# Altium footprint library CartSimple.PCBLIB: 166 footprints (part 11 of 11)
Each footprint in its own frame and in the unit in brackets; x right, y up, seen from the top. Pads: shape width x height; smd on the part's side, far side on the other; paste and mask are expansions set on the pad; w line width, h text height; cw(c..) or ccw(c..) is an arc to the next point about the centre after c.
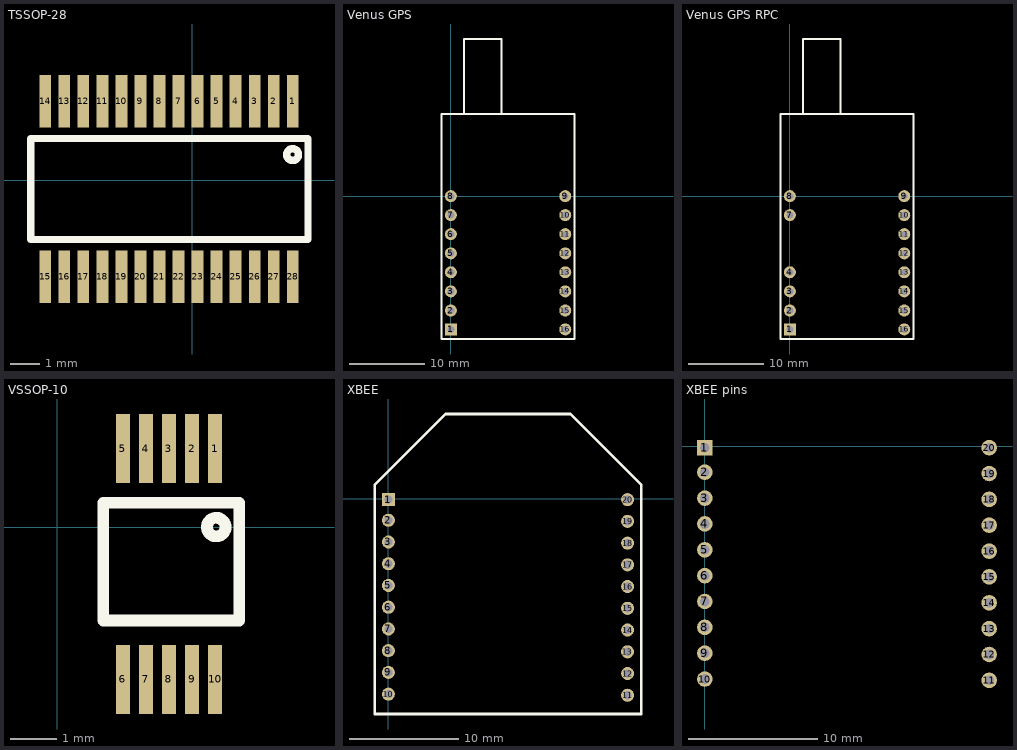
[diagram p10: the footprints below, top view; thin cyan lines are the x and y axes]

## TSSOP-28 [mm]
pads (28):
  rect 0.4x1.8 smd: 1(3.425,2.7) 2(2.775,2.7) 3(2.125,2.7) 4(1.475,2.7) 5(0.825,2.7) 6(0.175,2.7) 7(-0.475,2.7) 8(-1.125,2.7) 9(-1.775,2.7) 10(-2.425,2.7) 11(-3.075,2.7) 12(-3.725,2.7) 13(-4.375,2.7) 14(-5.025,2.7) 15(-5.025,-3.3) 16(-4.375,-3.3) 17(-3.725,-3.3) 18(-3.075,-3.3) 19(-2.425,-3.3) 20(-1.775,-3.3) 21(-1.125,-3.3) 22(-0.475,-3.3) 23(0.175,-3.3) 24(0.825,-3.3) 25(1.475,-3.3) 26(2.125,-3.3) 27(2.775,-3.3) 28(3.425,-3.3)
Top Overlay:
  circle w0.254: c3.423,0.875 r0.202
  lines w0.254: -5.525,-2.025 -5.525,1.425 3.95,1.425 3.95,-2.025 -5.525,-2.025

## Venus GPS [mm]
pads (16):
  rect 1.6x1.6 hole 0.9: 1(0,-17.775)
  round 1.6 hole 0.9: 2(0,-15.25) 3(0,-12.7) 4(0,-10.15) 5(0,-7.625) 6(0,-5.075) 7(0,-2.525) 8(0,0) 9(15.25,0) 10(15.25,-2.525) 11(15.25,-5.075) 12(15.25,-7.625) 13(15.25,-10.15) 14(15.25,-12.7) 15(15.25,-15.25) 16(15.25,-17.775)
Top Overlay:
  lines w0.254: 1.725,10.95 1.725,20.95 6.725,20.95 6.725,10.95 ; -1.275,-19.05 16.5,-19.05 16.5,10.95 -1.275,10.95 -1.275,-19.05

## Venus GPS RPC [mm]
pads (14):
  rect 1.6x1.6 hole 0.9: 1(0,-17.775)
  round 1.6 hole 0.9: 2(0,-15.25) 3(0,-12.7) 4(0,-10.15) 7(0,-2.525) 8(0,0) 9(15.25,0) 10(15.25,-2.525) 11(15.25,-5.075) 12(15.25,-7.625) 13(15.25,-10.15) 14(15.25,-12.7) 15(15.25,-15.25) 16(15.25,-17.775)
Top Overlay:
  lines w0.254: 1.725,10.95 1.725,20.95 6.725,20.95 6.725,10.95 ; -1.275,-19.05 -1.275,10.95 16.5,10.95 16.5,-19.05 -1.275,-19.05

## VSSOP-10 [mm]
pads (10):
  rect 0.3x1.5 smd: 1(3.425,1.7) 2(2.925,1.7) 3(2.425,1.7) 4(1.925,1.7) 5(1.425,1.7) 6(1.425,-3.3) 7(1.925,-3.3) 8(2.425,-3.3) 9(2.925,-3.3) 10(3.425,-3.3)
Top Overlay:
  circle w0.254: c3.448,0 r0.202
  lines w0.254: 1,-2.025 1,0.525 3.95,0.525 3.95,-2.025 1,-2.025

## XBEE [mm]
pads (20):
  rect 1.2x1.2 hole 0.75: 1(0,-0.1)
  round 1.2 hole 0.75: 2(0,-2) 3(0,-4) 4(0,-6) 5(0,-8) 6(0,-10) 7(0,-12) 8(-0.008,-14.001) 9(0,-16.001) 10(0,-18) 11(22,-18.1) 12(22,-16.101) 13(21.992,-14.101) 14(22,-12.1) 15(22,-10.1) 16(22,-8.1) 17(22,-6.1) 18(22,-4.1) 19(22,-2.1) 20(22,-0.1)
Top Overlay:
  lines w0.254: 7.75,7.775 14.25,7.775 ; 11,7.775 5.25,7.775 -1.25,1.275 -1.25,-19.825 23.25,-19.825 23.25,1.275 16.75,7.775 13.275,7.775

## XBEE pins [mm]
pads (20):
  rect 1.2x1.2 hole 0.75: 1(0,-0.1)
  round 1.2 hole 0.75: 2(0,-2) 3(0,-4) 4(0,-6) 5(0,-8) 6(0,-10) 7(0,-12) 8(-0.008,-14.001) 9(0,-16.001) 10(0,-18) 11(22,-18.1) 12(22,-16.101) 13(21.992,-14.101) 14(22,-12.1) 15(22,-10.1) 16(22,-8.1) 17(22,-6.1) 18(22,-4.1) 19(22,-2.1) 20(22,-0.1)